# EAGLE library part MCP73833 (library rocket)
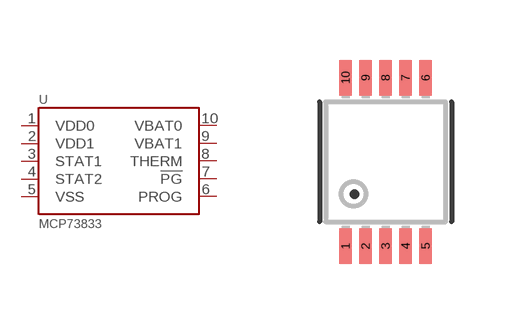
[diagram p10: symbol with the pads of MSOP10; footprint MSOP10]

Designator prefix -

## MCP73833  [MSOP10]
1  VDD0
2  VDD1
3  STAT1
4  STAT2
5  VSS
6  PROG
7  !PG
8  THERM
9  VBAT1
10  VBAT0

## Footprint MSOP10 (pad centres in mm)
smd 0.305 x 0.889: 1 -1,-2.11; 2 -0.5,-2.11; 3 0,-2.11; 4 0.5,-2.11; 5 1,-2.11; 6 1,2.11; 7 0.5,2.11; 8 0,2.11; 9 -0.5,2.11; 10 -1,2.11